# Altium footprint library MOTHERBOARD.PcbLib: 63 footprints (part 2 of 4)
Each footprint in its own frame and in the unit in brackets; x right, y up, seen from the top. Pads: shape width x height; smd on the part's side, far side on the other; paste and mask are expansions set on the pad; w line width, h text height; cw(c..) or ccw(c..) is an arc to the next point about the centre after c.
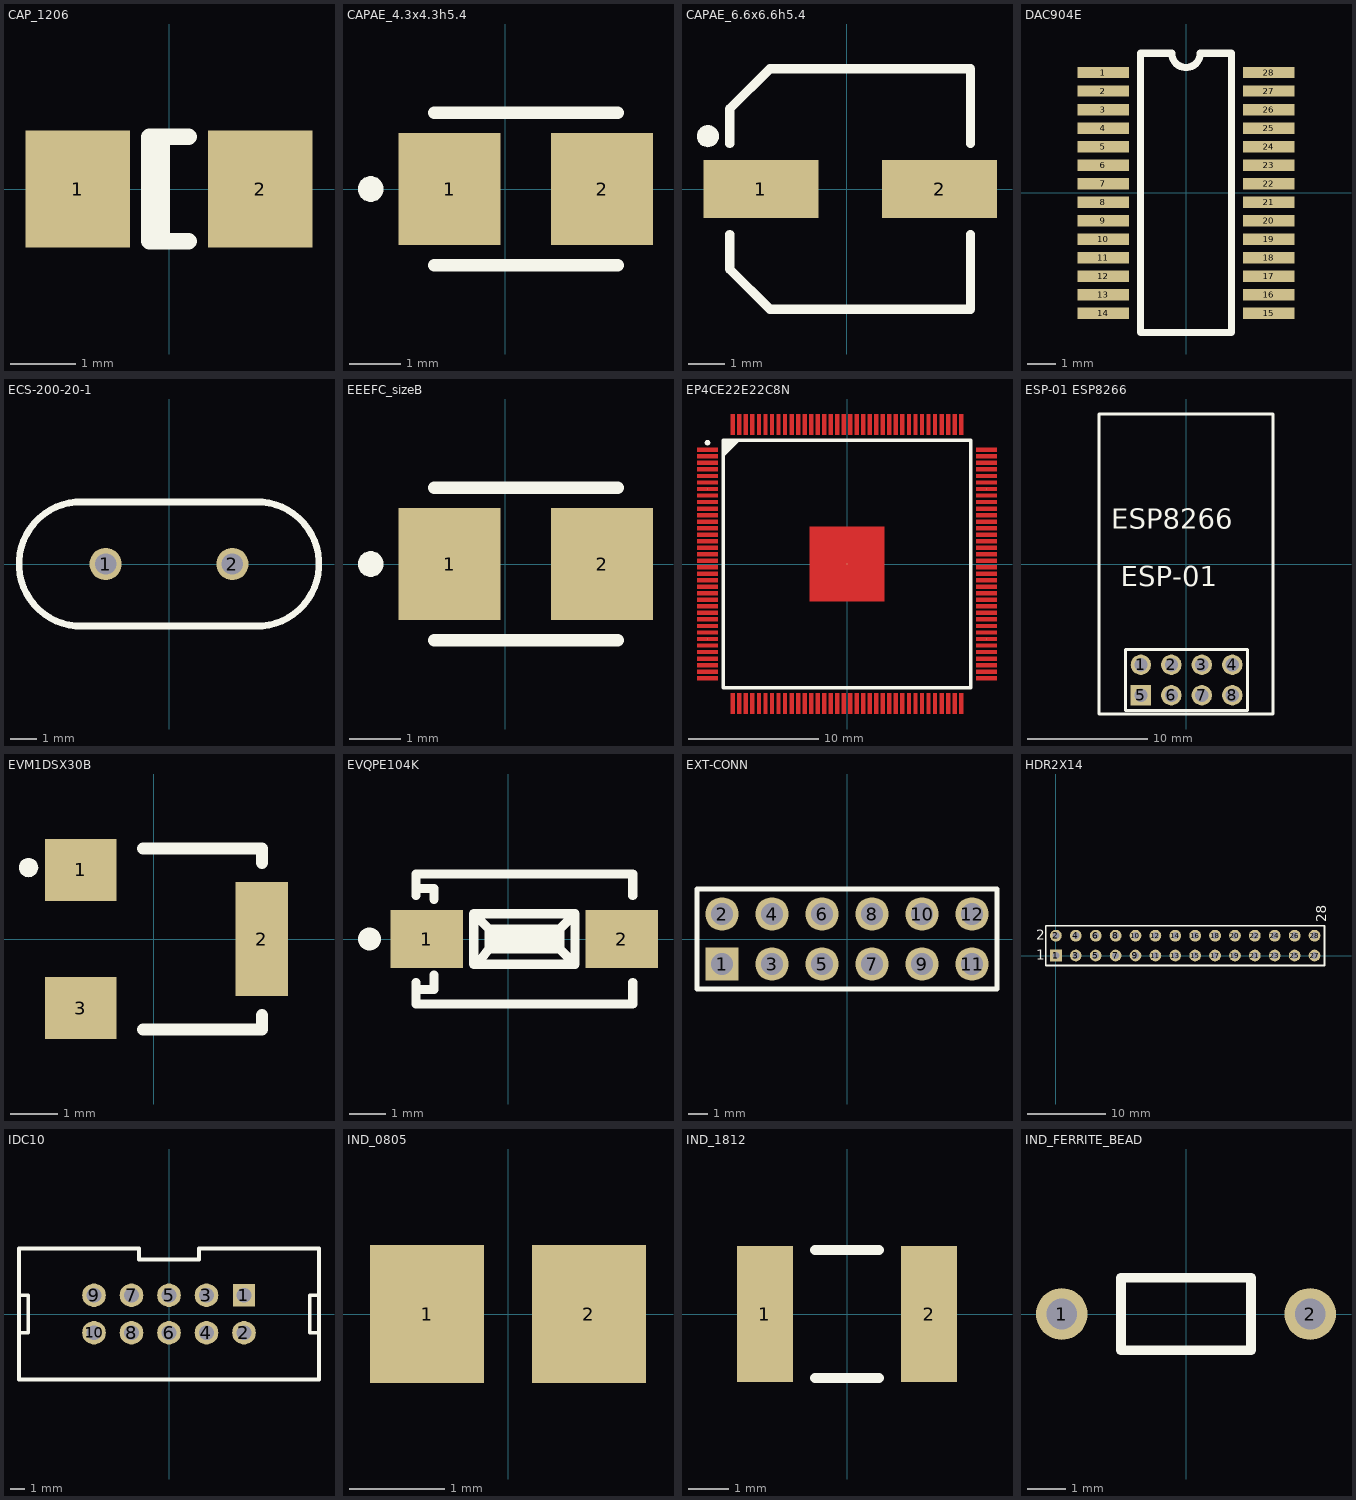
[diagram p1: the footprints below, top view; thin cyan lines are the x and y axes]

## CAP_1206 [mm]
pads (2):
  rect 1.6x1.8 smd: 1(-1.4,0) 2(1.4,0)
Top Overlay:
  lines w0.254: -0.11,-0.799 -0.11,0.799 ; 0.299,-0.799 -0.299,-0.799 -0.299,0.799 0.299,0.799

## CAPAE_4.3x4.3h5.4 [mm]
pads (2):
  rect 2x2.2 smd: 1(-1.1,0) 2(1.9,0)
Top Overlay:
  region: -2.4,0 -2.404,0.043 -2.415,0.085 -2.434,0.125 -2.458,0.161 -2.489,0.191 -2.525,0.216 -2.565,0.235 -2.607,0.246 -2.65,0.25 -2.693,0.246 -2.736,0.235 -2.775,0.216 -2.811,0.191 -2.842,0.161 -2.866,0.125 -2.885,0.085 -2.896,0.043 -2.9,0 -2.896,-0.043 -2.885,-0.085 -2.866,-0.125 -2.842,-0.161 -2.811,-0.191 -2.775,-0.216 -2.736,-0.235 -2.693,-0.246 -2.65,-0.25 -2.607,-0.246 -2.565,-0.235 -2.525,-0.216 -2.489,-0.191 -2.458,-0.161 -2.434,-0.125 -2.415,-0.085 -2.404,-0.043
  lines w0.254: -1.4,-1.5 2.2,-1.5 ; -1.4,1.5 2.2,1.5

## CAPAE_6.6x6.6h5.4 [mm]
pads (2):
  rect 3.15x1.6 smd: 1(-2.362,0) 2(2.538,0)
Top Overlay:
  region: -3.513,1.45 -3.518,1.502 -3.531,1.552 -3.553,1.6 -3.583,1.643 -3.62,1.679 -3.663,1.709 -3.71,1.732 -3.761,1.745 -3.813,1.75 -3.865,1.745 -3.915,1.732 -3.963,1.709 -4.005,1.679 -4.042,1.643 -4.072,1.6 -4.094,1.552 -4.108,1.502 -4.112,1.45 -4.108,1.398 -4.094,1.347 -4.072,1.3 -4.042,1.257 -4.005,1.22 -3.963,1.19 -3.915,1.168 -3.865,1.154 -3.813,1.15 -3.761,1.154 -3.71,1.168 -3.663,1.19 -3.62,1.22 -3.583,1.257 -3.553,1.3 -3.531,1.347 -3.518,1.398
  lines w0.254: -3.212,-1.25 -3.212,-2.2 -2.112,-3.3 3.387,-3.3 3.388,-1.25 ; -3.212,1.25 -3.212,2.2 -2.112,3.3 3.387,3.3 3.388,1.25

## DAC904E [mm]
pads (28):
  rect 1.8x0.4 smd: 1(-2.9,4.225) 2(-2.9,3.575) 3(-2.9,2.925) 4(-2.9,2.275) 5(-2.9,1.625) 6(-2.9,0.975) 7(-2.9,0.325) 8(-2.9,-0.325) 9(-2.9,-0.975) 10(-2.9,-1.625) 11(-2.9,-2.275) 12(-2.9,-2.925) 13(-2.9,-3.575) 14(-2.9,-4.225) 15(2.9,-4.225) 16(2.9,-3.575) 17(2.9,-2.925) 18(2.9,-2.275) 19(2.9,-1.625) 20(2.9,-0.975) 21(2.9,-0.325) 22(2.9,0.325) 23(2.9,0.975) 24(2.9,1.625) 25(2.9,2.275) 26(2.9,2.925) 27(2.9,3.575) 28(2.9,4.225)
Top Overlay:
  lines w0.254: -0.5,4.899 -1.6,4.899 -1.6,-4.899 1.6,-4.899 1.6,4.899 0.5,4.899 ; -0.5,4.901 ccw(c0,4.901) 0.5,4.901

## ECS-200-20-1 [mil]
pads (2):
  round 48 hole 32: 1(-95,0) 2(95,0)
Top Overlay:
  lines w10: -139.67,-92.87 139.67,-92.87 ; -139.67,92.87 139.67,92.87 ; -139.57,-92.88 cw(c-131.45,0) -139.57,92.88 ; 139.57,-92.88 ccw(c131.45,0) 139.57,92.88

## EEEFC_sizeB [mm]
pads (2):
  rect 2x2.2 smd: 1(-1.1,0) 2(1.9,0)
Top Overlay:
  region: -2.4,0 -2.404,0.043 -2.415,0.085 -2.434,0.125 -2.458,0.161 -2.489,0.191 -2.525,0.216 -2.565,0.235 -2.607,0.246 -2.65,0.25 -2.693,0.246 -2.736,0.235 -2.775,0.216 -2.811,0.191 -2.842,0.161 -2.866,0.125 -2.885,0.085 -2.896,0.043 -2.9,0 -2.896,-0.043 -2.885,-0.085 -2.866,-0.125 -2.842,-0.161 -2.811,-0.191 -2.775,-0.216 -2.736,-0.235 -2.693,-0.246 -2.65,-0.25 -2.607,-0.246 -2.565,-0.235 -2.525,-0.216 -2.489,-0.191 -2.458,-0.161 -2.434,-0.125 -2.415,-0.085 -2.404,-0.043
  lines w0.254: -1.4,-1.5 2.2,-1.5 ; -1.4,1.5 2.2,1.5

## EP4CE22E22C8N [mm]
pads (145):
  round 0 smd paste-25.4 mask-25.4: 1(-10.7,8.75) 2(-10.7,8.25) 3(-10.7,7.75) 4(-10.7,7.25) 5(-10.7,6.75) 6(-10.7,6.25) 7(-10.7,5.75) 8(-10.7,5.25) 9(-10.7,4.75) 10(-10.7,4.25) 11(-10.7,3.75) 12(-10.7,3.25) 13(-10.7,2.75) 14(-10.7,2.25) 15(-10.7,1.75) 16(-10.7,1.25) 17(-10.7,0.75) 18(-10.7,0.25) 19(-10.7,-0.25) 20(-10.7,-0.75) 21(-10.7,-1.25) 22(-10.7,-1.75) 23(-10.7,-2.25) 24(-10.7,-2.75) 25(-10.7,-3.25) 26(-10.7,-3.75) 27(-10.7,-4.25) 28(-10.7,-4.75) 29(-10.7,-5.25) 30(-10.7,-5.75) 31(-10.7,-6.25) 32(-10.7,-6.75) 33(-10.7,-7.25) 34(-10.7,-7.75) 35(-10.7,-8.25) 36(-10.7,-8.75) 37(-8.75,-10.7) 38(-8.25,-10.7) 39(-7.75,-10.7) 40(-7.25,-10.7) 41(-6.75,-10.7) 42(-6.25,-10.7) 43(-5.75,-10.7) 44(-5.25,-10.7) 45(-4.75,-10.7) 46(-4.25,-10.7) 47(-3.75,-10.7) 48(-3.25,-10.7) 49(-2.75,-10.7) 50(-2.25,-10.7) 51(-1.75,-10.7) 52(-1.25,-10.7) 53(-0.75,-10.7) 54(-0.25,-10.7) 55(0.25,-10.7) 56(0.75,-10.7) 57(1.25,-10.7) 58(1.75,-10.7) 59(2.25,-10.7) 60(2.75,-10.7) 61(3.25,-10.7) 62(3.75,-10.7) 63(4.25,-10.7) 64(4.75,-10.7) 65(5.25,-10.7) 66(5.75,-10.7) 67(6.25,-10.7) 68(6.75,-10.7) 69(7.25,-10.7) 70(7.75,-10.7) 71(8.25,-10.7) 72(8.75,-10.7) 73(10.7,-8.75) 74(10.7,-8.25) 75(10.7,-7.75) 76(10.7,-7.25) 77(10.7,-6.75) 78(10.7,-6.25) 79(10.7,-5.75) 80(10.7,-5.25) 81(10.7,-4.75) 82(10.7,-4.25) 83(10.7,-3.75) 84(10.7,-3.25) 85(10.7,-2.75) 86(10.7,-2.25) 87(10.7,-1.75) 88(10.7,-1.25) 89(10.7,-0.75) 90(10.7,-0.25) 91(10.7,0.25) 92(10.7,0.75) 93(10.7,1.25) 94(10.7,1.75) 95(10.7,2.25) 96(10.7,2.75) 97(10.7,3.25) 98(10.7,3.75) 99(10.7,4.25) 100(10.7,4.75) 101(10.7,5.25) 102(10.7,5.75) 103(10.7,6.25) 104(10.7,6.75) 105(10.7,7.25) 106(10.7,7.75) 107(10.7,8.25) 108(10.7,8.75) 109(8.75,10.7) 110(8.25,10.7) 111(7.75,10.7) 112(7.25,10.7) 113(6.75,10.7) 114(6.25,10.7) 115(5.75,10.7) 116(5.25,10.7) 117(4.75,10.7) 118(4.25,10.7) 119(3.75,10.7) 120(3.25,10.7) 121(2.75,10.7) 122(2.25,10.7) 123(1.75,10.7) 124(1.25,10.7) 125(0.75,10.7) 126(0.25,10.7) 127(-0.25,10.7) 128(-0.75,10.7) 129(-1.25,10.7) 130(-1.75,10.7) 131(-2.25,10.7) 132(-2.75,10.7) 133(-3.25,10.7) 134(-3.75,10.7) 135(-4.25,10.7) 136(-4.75,10.7) 137(-5.25,10.7) 138(-5.75,10.7) 139(-6.25,10.7) 140(-6.75,10.7) 141(-7.25,10.7) 142(-7.75,10.7) 143(-8.25,10.7) 144(-8.75,10.7) 145(0,0)
Top Layer:
  region: 8.1,11.5 8.4,11.5 8.4,9.9 8.1,9.9
  region: -8.4,11.5 -8.1,11.5 -8.1,9.9 -8.4,9.9
  region: 8.6,11.5 8.9,11.5 8.9,9.9 8.6,9.9
  region: 6.1,11.5 6.4,11.5 6.4,9.9 6.1,9.9
  region: 6.6,11.5 6.9,11.5 6.9,9.9 6.6,9.9
  region: 7.1,11.5 7.4,11.5 7.4,9.9 7.1,9.9
  region: 7.6,11.5 7.9,11.5 7.9,9.9 7.6,9.9
  region: 4.1,11.5 4.4,11.5 4.4,9.9 4.1,9.9
  region: 4.6,11.5 4.9,11.5 4.9,9.9 4.6,9.9
  region: 5.1,11.5 5.4,11.5 5.4,9.9 5.1,9.9
  region: 5.6,11.5 5.9,11.5 5.9,9.9 5.6,9.9
  region: 2.1,11.5 2.4,11.5 2.4,9.9 2.1,9.9
  region: 2.6,11.5 2.9,11.5 2.9,9.9 2.6,9.9
  region: 3.1,11.5 3.4,11.5 3.4,9.9 3.1,9.9
  region: 3.6,11.5 3.9,11.5 3.9,9.9 3.6,9.9
  region: 0.1,11.5 0.4,11.5 0.4,9.9 0.1,9.9
  region: 0.6,11.5 0.9,11.5 0.9,9.9 0.6,9.9
  region: 1.1,11.5 1.4,11.5 1.4,9.9 1.1,9.9
  region: 1.6,11.5 1.9,11.5 1.9,9.9 1.6,9.9
  region: -1.9,11.5 -1.6,11.5 -1.6,9.9 -1.9,9.9
  region: -1.4,11.5 -1.1,11.5 -1.1,9.9 -1.4,9.9
  region: -0.9,11.5 -0.6,11.5 -0.6,9.9 -0.9,9.9
  region: -0.4,11.5 -0.1,11.5 -0.1,9.9 -0.4,9.9
  region: -3.9,11.5 -3.6,11.5 -3.6,9.9 -3.9,9.9
  region: -3.4,11.5 -3.1,11.5 -3.1,9.9 -3.4,9.9
  region: -2.9,11.5 -2.6,11.5 -2.6,9.9 -2.9,9.9
  region: -2.4,11.5 -2.1,11.5 -2.1,9.9 -2.4,9.9
  region: -5.9,11.5 -5.6,11.5 -5.6,9.9 -5.9,9.9
  region: -5.4,11.5 -5.1,11.5 -5.1,9.9 -5.4,9.9
  region: -4.9,11.5 -4.6,11.5 -4.6,9.9 -4.9,9.9
  region: -4.4,11.5 -4.1,11.5 -4.1,9.9 -4.4,9.9
  region: -7.9,11.5 -7.6,11.5 -7.6,9.9 -7.9,9.9
  region: -7.4,11.5 -7.1,11.5 -7.1,9.9 -7.4,9.9
  region: -6.9,11.5 -6.6,11.5 -6.6,9.9 -6.9,9.9
  region: -6.4,11.5 -6.1,11.5 -6.1,9.9 -6.4,9.9
  region: -8.9,11.5 -8.6,11.5 -8.6,9.9 -8.9,9.9
  region: -2.85,2.85 2.85,2.85 2.85,-2.85 -2.85,-2.85
  region: 9.9,8.1 9.9,8.4 11.5,8.4 11.5,8.1
  region: 9.9,-8.4 9.9,-8.1 11.5,-8.1 11.5,-8.4
  region: 9.9,8.6 9.9,8.9 11.5,8.9 11.5,8.6
  region: 9.9,7.6 9.9,7.9 11.5,7.9 11.5,7.6
  region: 9.9,7.1 9.9,7.4 11.5,7.4 11.5,7.1
  region: 9.9,6.6 9.9,6.9 11.5,6.9 11.5,6.6
  region: 9.9,6.1 9.9,6.4 11.5,6.4 11.5,6.1
  region: 9.9,5.6 9.9,5.9 11.5,5.9 11.5,5.6
  region: 9.9,5.1 9.9,5.4 11.5,5.4 11.5,5.1
  region: 9.9,4.6 9.9,4.9 11.5,4.9 11.5,4.6
  region: 9.9,4.1 9.9,4.4 11.5,4.4 11.5,4.1
  region: 9.9,3.6 9.9,3.9 11.5,3.9 11.5,3.6
  region: 9.9,3.1 9.9,3.4 11.5,3.4 11.5,3.1
  region: 9.9,2.6 9.9,2.9 11.5,2.9 11.5,2.6
  region: 9.9,2.1 9.9,2.4 11.5,2.4 11.5,2.1
  region: 9.9,1.6 9.9,1.9 11.5,1.9 11.5,1.6
  region: 9.9,1.1 9.9,1.4 11.5,1.4 11.5,1.1
  region: 9.9,0.6 9.9,0.9 11.5,0.9 11.5,0.6
  region: 9.9,0.1 9.9,0.4 11.5,0.4 11.5,0.1
  region: 9.9,-0.4 9.9,-0.1 11.5,-0.1 11.5,-0.4
  region: 9.9,-0.9 9.9,-0.6 11.5,-0.6 11.5,-0.9
  region: 9.9,-1.4 9.9,-1.1 11.5,-1.1 11.5,-1.4
  region: 9.9,-1.9 9.9,-1.6 11.5,-1.6 11.5,-1.9
  region: 9.9,-2.4 9.9,-2.1 11.5,-2.1 11.5,-2.4
  region: 9.9,-2.9 9.9,-2.6 11.5,-2.6 11.5,-2.9
  region: 9.9,-3.4 9.9,-3.1 11.5,-3.1 11.5,-3.4
  region: 9.9,-3.9 9.9,-3.6 11.5,-3.6 11.5,-3.9
  region: 9.9,-4.4 9.9,-4.1 11.5,-4.1 11.5,-4.4
  region: 9.9,-4.9 9.9,-4.6 11.5,-4.6 11.5,-4.9
  region: 9.9,-5.4 9.9,-5.1 11.5,-5.1 11.5,-5.4
  region: 9.9,-5.9 9.9,-5.6 11.5,-5.6 11.5,-5.9
  region: 9.9,-6.4 9.9,-6.1 11.5,-6.1 11.5,-6.4
  region: 9.9,-6.9 9.9,-6.6 11.5,-6.6 11.5,-6.9
  region: 9.9,-7.4 9.9,-7.1 11.5,-7.1 11.5,-7.4
  region: 9.9,-7.9 9.9,-7.6 11.5,-7.6 11.5,-7.9
  region: 9.9,-8.9 9.9,-8.6 11.5,-8.6 11.5,-8.9
  region: 8.1,-9.9 8.4,-9.9 8.4,-11.5 8.1,-11.5
  region: -8.4,-9.9 -8.1,-9.9 -8.1,-11.5 -8.4,-11.5
  region: 8.6,-9.9 8.9,-9.9 8.9,-11.5 8.6,-11.5
  region: 7.6,-9.9 7.9,-9.9 7.9,-11.5 7.6,-11.5
  region: 7.1,-9.9 7.4,-9.9 7.4,-11.5 7.1,-11.5
  region: 6.6,-9.9 6.9,-9.9 6.9,-11.5 6.6,-11.5
  region: 6.1,-9.9 6.4,-9.9 6.4,-11.5 6.1,-11.5
  region: 5.6,-9.9 5.9,-9.9 5.9,-11.5 5.6,-11.5
  region: 5.1,-9.9 5.4,-9.9 5.4,-11.5 5.1,-11.5
  region: 4.6,-9.9 4.9,-9.9 4.9,-11.5 4.6,-11.5
  region: 4.1,-9.9 4.4,-9.9 4.4,-11.5 4.1,-11.5
  region: 3.6,-9.9 3.9,-9.9 3.9,-11.5 3.6,-11.5
  region: 3.1,-9.9 3.4,-9.9 3.4,-11.5 3.1,-11.5
  region: 2.6,-9.9 2.9,-9.9 2.9,-11.5 2.6,-11.5
  region: 2.1,-9.9 2.4,-9.9 2.4,-11.5 2.1,-11.5
  region: 1.6,-9.9 1.9,-9.9 1.9,-11.5 1.6,-11.5
  region: 1.1,-9.9 1.4,-9.9 1.4,-11.5 1.1,-11.5
  region: 0.6,-9.9 0.9,-9.9 0.9,-11.5 0.6,-11.5
  region: 0.1,-9.9 0.4,-9.9 0.4,-11.5 0.1,-11.5
  region: -0.4,-9.9 -0.1,-9.9 -0.1,-11.5 -0.4,-11.5
  region: -0.9,-9.9 -0.6,-9.9 -0.6,-11.5 -0.9,-11.5
  region: -1.4,-9.9 -1.1,-9.9 -1.1,-11.5 -1.4,-11.5
  region: -1.9,-9.9 -1.6,-9.9 -1.6,-11.5 -1.9,-11.5
  region: -2.4,-9.9 -2.1,-9.9 -2.1,-11.5 -2.4,-11.5
  region: -2.9,-9.9 -2.6,-9.9 -2.6,-11.5 -2.9,-11.5
  region: -3.4,-9.9 -3.1,-9.9 -3.1,-11.5 -3.4,-11.5
  region: -3.9,-9.9 -3.6,-9.9 -3.6,-11.5 -3.9,-11.5
  region: -4.4,-9.9 -4.1,-9.9 -4.1,-11.5 -4.4,-11.5
  region: -4.9,-9.9 -4.6,-9.9 -4.6,-11.5 -4.9,-11.5
  region: -5.4,-9.9 -5.1,-9.9 -5.1,-11.5 -5.4,-11.5
  region: -5.9,-9.9 -5.6,-9.9 -5.6,-11.5 -5.9,-11.5
  region: -6.4,-9.9 -6.1,-9.9 -6.1,-11.5 -6.4,-11.5
  region: -6.9,-9.9 -6.6,-9.9 -6.6,-11.5 -6.9,-11.5
  region: -7.4,-9.9 -7.1,-9.9 -7.1,-11.5 -7.4,-11.5
  region: -7.9,-9.9 -7.6,-9.9 -7.6,-11.5 -7.9,-11.5
  region: -8.9,-9.9 -8.6,-9.9 -8.6,-11.5 -8.9,-11.5
  region: -11.5,8.1 -11.5,8.4 -9.9,8.4 -9.9,8.1
  region: -11.5,-8.4 -11.5,-8.1 -9.9,-8.1 -9.9,-8.4
  region: -11.5,8.6 -11.5,8.9 -9.9,8.9 -9.9,8.6
  region: -11.5,6.1 -11.5,6.4 -9.9,6.4 -9.9,6.1
  region: -11.5,6.6 -11.5,6.9 -9.9,6.9 -9.9,6.6
  region: -11.5,7.1 -11.5,7.4 -9.9,7.4 -9.9,7.1
  region: -11.5,7.6 -11.5,7.9 -9.9,7.9 -9.9,7.6
  region: -11.5,4.1 -11.5,4.4 -9.9,4.4 -9.9,4.1
  region: -11.5,4.6 -11.5,4.9 -9.9,4.9 -9.9,4.6
  region: -11.5,5.1 -11.5,5.4 -9.9,5.4 -9.9,5.1
  region: -11.5,5.6 -11.5,5.9 -9.9,5.9 -9.9,5.6
  region: -11.5,2.1 -11.5,2.4 -9.9,2.4 -9.9,2.1
  region: -11.5,2.6 -11.5,2.9 -9.9,2.9 -9.9,2.6
  region: -11.5,3.1 -11.5,3.4 -9.9,3.4 -9.9,3.1
  region: -11.5,3.6 -11.5,3.9 -9.9,3.9 -9.9,3.6
  region: -11.5,0.1 -11.5,0.4 -9.9,0.4 -9.9,0.1
  region: -11.5,0.6 -11.5,0.9 -9.9,0.9 -9.9,0.6
  region: -11.5,1.1 -11.5,1.4 -9.9,1.4 -9.9,1.1
  region: -11.5,1.6 -11.5,1.9 -9.9,1.9 -9.9,1.6
  region: -11.5,-1.9 -11.5,-1.6 -9.9,-1.6 -9.9,-1.9
  region: -11.5,-1.4 -11.5,-1.1 -9.9,-1.1 -9.9,-1.4
  region: -11.5,-0.9 -11.5,-0.6 -9.9,-0.6 -9.9,-0.9
  region: -11.5,-0.4 -11.5,-0.1 -9.9,-0.1 -9.9,-0.4
  region: -11.5,-3.9 -11.5,-3.6 -9.9,-3.6 -9.9,-3.9
  region: -11.5,-3.4 -11.5,-3.1 -9.9,-3.1 -9.9,-3.4
  region: -11.5,-2.9 -11.5,-2.6 -9.9,-2.6 -9.9,-2.9
  region: -11.5,-2.4 -11.5,-2.1 -9.9,-2.1 -9.9,-2.4
  region: -11.5,-5.9 -11.5,-5.6 -9.9,-5.6 -9.9,-5.9
  region: -11.5,-5.4 -11.5,-5.1 -9.9,-5.1 -9.9,-5.4
  region: -11.5,-4.9 -11.5,-4.6 -9.9,-4.6 -9.9,-4.9
  region: -11.5,-4.4 -11.5,-4.1 -9.9,-4.1 -9.9,-4.4
  region: -11.5,-7.9 -11.5,-7.6 -9.9,-7.6 -9.9,-7.9
  region: -11.5,-7.4 -11.5,-7.1 -9.9,-7.1 -9.9,-7.4
  region: -11.5,-6.9 -11.5,-6.6 -9.9,-6.6 -9.9,-6.9
  region: -11.5,-6.4 -11.5,-6.1 -9.9,-6.1 -9.9,-6.4
  region: -11.5,-8.9 -11.5,-8.6 -9.9,-8.6 -9.9,-8.9
  region: -2.85,2.85 2.85,2.85 2.85,-2.85 -2.85,-2.85
  region: -8.9,11.5 -8.6,11.5 -8.6,9.9 -8.9,9.9
  region: -8.4,11.5 -8.1,11.5 -8.1,9.9 -8.4,9.9
  region: -7.9,11.5 -7.6,11.5 -7.6,9.9 -7.9,9.9
  region: -7.4,11.5 -7.1,11.5 -7.1,9.9 -7.4,9.9
  region: -6.9,11.5 -6.6,11.5 -6.6,9.9 -6.9,9.9
  region: -6.4,11.5 -6.1,11.5 -6.1,9.9 -6.4,9.9
  region: -5.9,11.5 -5.6,11.5 -5.6,9.9 -5.9,9.9
  region: -5.4,11.5 -5.1,11.5 -5.1,9.9 -5.4,9.9
  region: -4.9,11.5 -4.6,11.5 -4.6,9.9 -4.9,9.9
  region: -4.4,11.5 -4.1,11.5 -4.1,9.9 -4.4,9.9
  region: -3.9,11.5 -3.6,11.5 -3.6,9.9 -3.9,9.9
  region: -3.4,11.5 -3.1,11.5 -3.1,9.9 -3.4,9.9
  region: -2.9,11.5 -2.6,11.5 -2.6,9.9 -2.9,9.9
  region: -2.4,11.5 -2.1,11.5 -2.1,9.9 -2.4,9.9
  region: -1.9,11.5 -1.6,11.5 -1.6,9.9 -1.9,9.9
  region: -1.4,11.5 -1.1,11.5 -1.1,9.9 -1.4,9.9
  region: -0.9,11.5 -0.6,11.5 -0.6,9.9 -0.9,9.9
  region: -0.4,11.5 -0.1,11.5 -0.1,9.9 -0.4,9.9
  region: 0.1,11.5 0.4,11.5 0.4,9.9 0.1,9.9
  region: 0.6,11.5 0.9,11.5 0.9,9.9 0.6,9.9
  region: 1.1,11.5 1.4,11.5 1.4,9.9 1.1,9.9
  region: 1.6,11.5 1.9,11.5 1.9,9.9 1.6,9.9
  region: 2.1,11.5 2.4,11.5 2.4,9.9 2.1,9.9
  region: 2.6,11.5 2.9,11.5 2.9,9.9 2.6,9.9
  region: 3.1,11.5 3.4,11.5 3.4,9.9 3.1,9.9
  region: 3.6,11.5 3.9,11.5 3.9,9.9 3.6,9.9
  region: 4.1,11.5 4.4,11.5 4.4,9.9 4.1,9.9
  region: 4.6,11.5 4.9,11.5 4.9,9.9 4.6,9.9
  region: 5.1,11.5 5.4,11.5 5.4,9.9 5.1,9.9
  region: 5.6,11.5 5.9,11.5 5.9,9.9 5.6,9.9
  region: 6.1,11.5 6.4,11.5 6.4,9.9 6.1,9.9
  region: 6.6,11.5 6.9,11.5 6.9,9.9 6.6,9.9
  region: 7.1,11.5 7.4,11.5 7.4,9.9 7.1,9.9
  region: 7.6,11.5 7.9,11.5 7.9,9.9 7.6,9.9
  region: 8.1,11.5 8.4,11.5 8.4,9.9 8.1,9.9
  region: 8.6,11.5 8.9,11.5 8.9,9.9 8.6,9.9
  region: 9.9,8.6 9.9,8.9 11.5,8.9 11.5,8.6
  region: 9.9,8.1 9.9,8.4 11.5,8.4 11.5,8.1
  region: 9.9,7.6 9.9,7.9 11.5,7.9 11.5,7.6
  region: 9.9,7.1 9.9,7.4 11.5,7.4 11.5,7.1
  region: 9.9,6.6 9.9,6.9 11.5,6.9 11.5,6.6
  region: 9.9,6.1 9.9,6.4 11.5,6.4 11.5,6.1
  region: 9.9,5.6 9.9,5.9 11.5,5.9 11.5,5.6
  region: 9.9,5.1 9.9,5.4 11.5,5.4 11.5,5.1
  region: 9.9,4.6 9.9,4.9 11.5,4.9 11.5,4.6
  region: 9.9,4.1 9.9,4.4 11.5,4.4 11.5,4.1
  region: 9.9,3.6 9.9,3.9 11.5,3.9 11.5,3.6
  region: 9.9,3.1 9.9,3.4 11.5,3.4 11.5,3.1
  region: 9.9,2.6 9.9,2.9 11.5,2.9 11.5,2.6
  region: 9.9,2.1 9.9,2.4 11.5,2.4 11.5,2.1
  region: 9.9,1.6 9.9,1.9 11.5,1.9 11.5,1.6
  region: 9.9,1.1 9.9,1.4 11.5,1.4 11.5,1.1
  region: 9.9,0.6 9.9,0.9 11.5,0.9 11.5,0.6
  region: 9.9,0.1 9.9,0.4 11.5,0.4 11.5,0.1
  region: 9.9,-0.4 9.9,-0.1 11.5,-0.1 11.5,-0.4
  region: 9.9,-0.9 9.9,-0.6 11.5,-0.6 11.5,-0.9
  region: 9.9,-1.4 9.9,-1.1 11.5,-1.1 11.5,-1.4
  region: 9.9,-1.9 9.9,-1.6 11.5,-1.6 11.5,-1.9
  region: 9.9,-2.4 9.9,-2.1 11.5,-2.1 11.5,-2.4
  region: 9.9,-2.9 9.9,-2.6 11.5,-2.6 11.5,-2.9
  region: 9.9,-3.4 9.9,-3.1 11.5,-3.1 11.5,-3.4
  region: 9.9,-3.9 9.9,-3.6 11.5,-3.6 11.5,-3.9
  region: 9.9,-4.4 9.9,-4.1 11.5,-4.1 11.5,-4.4
  region: 9.9,-4.9 9.9,-4.6 11.5,-4.6 11.5,-4.9
  region: 9.9,-5.4 9.9,-5.1 11.5,-5.1 11.5,-5.4
  region: 9.9,-5.9 9.9,-5.6 11.5,-5.6 11.5,-5.9
  region: 9.9,-6.4 9.9,-6.1 11.5,-6.1 11.5,-6.4
  region: 9.9,-6.9 9.9,-6.6 11.5,-6.6 11.5,-6.9
  region: 9.9,-7.4 9.9,-7.1 11.5,-7.1 11.5,-7.4
  region: 9.9,-7.9 9.9,-7.6 11.5,-7.6 11.5,-7.9
  region: 9.9,-8.4 9.9,-8.1 11.5,-8.1 11.5,-8.4
  region: 9.9,-8.9 9.9,-8.6 11.5,-8.6 11.5,-8.9
  region: 8.6,-9.9 8.9,-9.9 8.9,-11.5 8.6,-11.5
  region: 8.1,-9.9 8.4,-9.9 8.4,-11.5 8.1,-11.5
  region: 7.6,-9.9 7.9,-9.9 7.9,-11.5 7.6,-11.5
  region: 7.1,-9.9 7.4,-9.9 7.4,-11.5 7.1,-11.5
  region: 6.6,-9.9 6.9,-9.9 6.9,-11.5 6.6,-11.5
  region: 6.1,-9.9 6.4,-9.9 6.4,-11.5 6.1,-11.5
  region: 5.6,-9.9 5.9,-9.9 5.9,-11.5 5.6,-11.5
  region: 5.1,-9.9 5.4,-9.9 5.4,-11.5 5.1,-11.5
  region: 4.6,-9.9 4.9,-9.9 4.9,-11.5 4.6,-11.5
  region: 4.1,-9.9 4.4,-9.9 4.4,-11.5 4.1,-11.5
  region: 3.6,-9.9 3.9,-9.9 3.9,-11.5 3.6,-11.5
  region: 3.1,-9.9 3.4,-9.9 3.4,-11.5 3.1,-11.5
  region: 2.6,-9.9 2.9,-9.9 2.9,-11.5 2.6,-11.5
  region: 2.1,-9.9 2.4,-9.9 2.4,-11.5 2.1,-11.5
  region: 1.6,-9.9 1.9,-9.9 1.9,-11.5 1.6,-11.5
  region: 1.1,-9.9 1.4,-9.9 1.4,-11.5 1.1,-11.5
  region: 0.6,-9.9 0.9,-9.9 0.9,-11.5 0.6,-11.5
  region: 0.1,-9.9 0.4,-9.9 0.4,-11.5 0.1,-11.5
  region: -0.4,-9.9 -0.1,-9.9 -0.1,-11.5 -0.4,-11.5
  region: -0.9,-9.9 -0.6,-9.9 -0.6,-11.5 -0.9,-11.5
  region: -1.4,-9.9 -1.1,-9.9 -1.1,-11.5 -1.4,-11.5
  region: -1.9,-9.9 -1.6,-9.9 -1.6,-11.5 -1.9,-11.5
  region: -2.4,-9.9 -2.1,-9.9 -2.1,-11.5 -2.4,-11.5
  region: -2.9,-9.9 -2.6,-9.9 -2.6,-11.5 -2.9,-11.5
  region: -3.4,-9.9 -3.1,-9.9 -3.1,-11.5 -3.4,-11.5
  region: -3.9,-9.9 -3.6,-9.9 -3.6,-11.5 -3.9,-11.5
  region: -4.4,-9.9 -4.1,-9.9 -4.1,-11.5 -4.4,-11.5
  region: -4.9,-9.9 -4.6,-9.9 -4.6,-11.5 -4.9,-11.5
  region: -5.4,-9.9 -5.1,-9.9 -5.1,-11.5 -5.4,-11.5
  region: -5.9,-9.9 -5.6,-9.9 -5.6,-11.5 -5.9,-11.5
  region: -6.4,-9.9 -6.1,-9.9 -6.1,-11.5 -6.4,-11.5
  region: -6.9,-9.9 -6.6,-9.9 -6.6,-11.5 -6.9,-11.5
  region: -7.4,-9.9 -7.1,-9.9 -7.1,-11.5 -7.4,-11.5
  region: -7.9,-9.9 -7.6,-9.9 -7.6,-11.5 -7.9,-11.5
  region: -8.4,-9.9 -8.1,-9.9 -8.1,-11.5 -8.4,-11.5
  region: -8.9,-9.9 -8.6,-9.9 -8.6,-11.5 -8.9,-11.5
  region: -11.5,-8.9 -11.5,-8.6 -9.9,-8.6 -9.9,-8.9
  region: -11.5,-8.4 -11.5,-8.1 -9.9,-8.1 -9.9,-8.4
  region: -11.5,-7.9 -11.5,-7.6 -9.9,-7.6 -9.9,-7.9
  region: -11.5,-7.4 -11.5,-7.1 -9.9,-7.1 -9.9,-7.4
  region: -11.5,-6.9 -11.5,-6.6 -9.9,-6.6 -9.9,-6.9
  region: -11.5,-6.4 -11.5,-6.1 -9.9,-6.1 -9.9,-6.4
  region: -11.5,-5.9 -11.5,-5.6 -9.9,-5.6 -9.9,-5.9
  region: -11.5,-5.4 -11.5,-5.1 -9.9,-5.1 -9.9,-5.4
  region: -11.5,-4.9 -11.5,-4.6 -9.9,-4.6 -9.9,-4.9
  region: -11.5,-4.4 -11.5,-4.1 -9.9,-4.1 -9.9,-4.4
  region: -11.5,-3.9 -11.5,-3.6 -9.9,-3.6 -9.9,-3.9
  region: -11.5,-3.4 -11.5,-3.1 -9.9,-3.1 -9.9,-3.4
  region: -11.5,-2.9 -11.5,-2.6 -9.9,-2.6 -9.9,-2.9
  region: -11.5,-2.4 -11.5,-2.1 -9.9,-2.1 -9.9,-2.4
  region: -11.5,-1.9 -11.5,-1.6 -9.9,-1.6 -9.9,-1.9
  region: -11.5,-1.4 -11.5,-1.1 -9.9,-1.1 -9.9,-1.4
  region: -11.5,-0.9 -11.5,-0.6 -9.9,-0.6 -9.9,-0.9
  region: -11.5,-0.4 -11.5,-0.1 -9.9,-0.1 -9.9,-0.4
  region: -11.5,0.1 -11.5,0.4 -9.9,0.4 -9.9,0.1
  region: -11.5,0.6 -11.5,0.9 -9.9,0.9 -9.9,0.6
  region: -11.5,1.1 -11.5,1.4 -9.9,1.4 -9.9,1.1
  region: -11.5,1.6 -11.5,1.9 -9.9,1.9 -9.9,1.6
  region: -11.5,2.1 -11.5,2.4 -9.9,2.4 -9.9,2.1
  region: -11.5,2.6 -11.5,2.9 -9.9,2.9 -9.9,2.6
  region: -11.5,3.1 -11.5,3.4 -9.9,3.4 -9.9,3.1
  region: -11.5,3.6 -11.5,3.9 -9.9,3.9 -9.9,3.6
  region: -11.5,4.1 -11.5,4.4 -9.9,4.4 -9.9,4.1
  region: -11.5,4.6 -11.5,4.9 -9.9,4.9 -9.9,4.6
  region: -11.5,5.1 -11.5,5.4 -9.9,5.4 -9.9,5.1
  region: -11.5,5.6 -11.5,5.9 -9.9,5.9 -9.9,5.6
  region: -11.5,6.1 -11.5,6.4 -9.9,6.4 -9.9,6.1
  region: -11.5,6.6 -11.5,6.9 -9.9,6.9 -9.9,6.6
  region: -11.5,7.1 -11.5,7.4 -9.9,7.4 -9.9,7.1
  region: -11.5,7.6 -11.5,7.9 -9.9,7.9 -9.9,7.6
  region: -11.5,8.1 -11.5,8.4 -9.9,8.4 -9.9,8.1
  region: -11.5,8.6 -11.5,8.9 -9.9,8.9 -9.9,8.6
Top Overlay:
  region: -9.497,9.499 -9.497,8.2 -8.2,9.499
  region: -10.496,9.3 -10.499,9.335 -10.508,9.369 -10.523,9.4 -10.543,9.429 -10.568,9.453 -10.597,9.473 -10.629,9.488 -10.662,9.497 -10.697,9.5 -10.732,9.497 -10.766,9.488 -10.798,9.473 -10.827,9.453 -10.851,9.429 -10.872,9.4 -10.886,9.369 -10.896,9.335 -10.899,9.3 -10.896,9.265 -10.886,9.232 -10.872,9.2 -10.851,9.171 -10.827,9.147 -10.798,9.127 -10.766,9.112 -10.732,9.103 -10.697,9.1 -10.662,9.103 -10.629,9.112 -10.597,9.127 -10.568,9.147 -10.543,9.171 -10.523,9.2 -10.508,9.232 -10.499,9.265
  lines w0.254: -9.497,-9.499 -9.497,9.499 9.497,9.499 9.497,-9.499 -9.497,-9.499

## ESP-01 ESP8266 [mm]
pads (8):
  round 1.7 hole 1.1: 1(-3.76,-8.4) 2(-1.22,-8.4) 3(1.32,-8.4) 4(3.86,-8.4) 6(-1.22,-10.94) 7(1.32,-10.94) 8(3.86,-10.94)
  rect 1.7x1.7 hole 1.1: 5(-3.76,-10.94)
Top Overlay:
  lines w0.254: -7.25,-12.5 7.25,-12.5 7.25,12.5 -7.25,12.5 -7.25,-12.5 ; -5.03,-12.21 5.13,-12.21 5.13,-7.13 -5.03,-7.13 -5.03,-12.21
  text "ESP8266" at -6.213,2.926 h1.67
  text "ESP-01" at -5.441,-1.854 h1.67

## EVM1DSX30B [mm]
pads (3):
  rect 1.5x1.3 smd: 1(-1.525,1.45) 3(-1.525,-1.45)
  rect 1.1x2.4 smd: 2(2.275,0)
Top Overlay:
  region: -2.425,1.5 -2.428,1.535 -2.437,1.569 -2.452,1.6 -2.472,1.629 -2.496,1.653 -2.525,1.673 -2.556,1.688 -2.59,1.697 -2.625,1.7 -2.66,1.697 -2.693,1.688 -2.725,1.673 -2.753,1.653 -2.778,1.629 -2.798,1.6 -2.813,1.569 -2.822,1.535 -2.825,1.5 -2.822,1.465 -2.813,1.432 -2.798,1.4 -2.778,1.371 -2.753,1.347 -2.725,1.327 -2.693,1.312 -2.66,1.303 -2.625,1.3 -2.59,1.303 -2.556,1.312 -2.525,1.327 -2.496,1.347 -2.472,1.371 -2.452,1.4 -2.437,1.432 -2.428,1.465
  lines w0.254: -0.225,-1.9 2.275,-1.9 2.275,-1.6 ; -0.225,1.9 2.275,1.9 2.275,1.6

## EVQPE104K [mm]
pads (2):
  rect 2x1.6 smd: 1(-2.248,0) 2(3.152,0)
Top Overlay:
  region: -0.648,-0.4 1.551,-0.4 1.551,0.4 -0.648,0.4
  region: -3.516,0 -3.521,0.055 -3.536,0.109 -3.559,0.159 -3.591,0.204 -3.63,0.243 -3.675,0.275 -3.725,0.298 -3.779,0.313 -3.834,0.318 -3.889,0.313 -3.943,0.298 -3.993,0.275 -4.038,0.243 -4.077,0.204 -4.109,0.159 -4.132,0.109 -4.147,0.055 -4.152,0 -4.147,-0.055 -4.132,-0.109 -4.109,-0.159 -4.077,-0.204 -4.038,-0.243 -3.993,-0.275 -3.943,-0.298 -3.889,-0.313 -3.834,-0.318 -3.779,-0.313 -3.725,-0.298 -3.675,-0.275 -3.63,-0.243 -3.591,-0.204 -3.559,-0.159 -3.536,-0.109 -3.521,-0.055
  lines w0.254: -2.548,-1.4 -2.048,-1.4 -2.048,-1 ; -2.548,-1.2 -2.548,-1.8 3.452,-1.8 3.452,-1.2 ; -2.548,1.2 -2.548,1.8 3.452,1.8 3.452,1.2 ; -2.548,1.4 -2.048,1.4 -2.048,1.1 ; -0.849,-0.7 -0.548,-0.3 ; -0.548,0.3 -0.948,0.7 ; 1.451,-0.3 1.852,-0.7 ; 1.451,0.3 1.852,0.7 ; -0.948,0.7 1.852,0.7 ; -0.948,0.7 -0.948,-0.7 1.852,-0.7 ; 1.852,-0.7 1.852,0.7

## EXT-CONN [mm]
pads (12):
  rect 1.7x1.7 hole 1.1: 1(-6.35,-1.27)
  round 1.7 hole 1.1: 2(-6.35,1.27) 3(-3.81,-1.27) 4(-3.81,1.27) 5(-1.27,-1.27) 6(-1.27,1.27) 7(1.27,-1.27) 8(1.27,1.27) 9(3.81,-1.27) 10(3.81,1.27) 11(6.35,-1.27) 12(6.35,1.27)
Top Overlay:
  lines w0.254: -7.62,-2.54 7.62,-2.54 7.62,2.54 -7.62,2.54 -7.62,-2.54

## HDR2X14 [mm] "Connector; Header; 14x2 Position"
pads (28):
  rect 1.5x1.5 hole 0.9: 1(0,0)
  round 1.5 hole 0.9: 2(0,2.54) 3(2.54,0) 4(2.54,2.54) 5(5.08,0) 6(5.08,2.54) 7(7.62,0) 8(7.62,2.54) 9(10.16,0) 10(10.16,2.54) 11(12.7,0) 12(12.7,2.54) 13(15.24,0) 14(15.24,2.54) 15(17.78,0) 16(17.78,2.54) 17(20.32,0) 18(20.32,2.54) 19(22.86,0) 20(22.86,2.54) 21(25.4,0) 22(25.4,2.54) 23(27.94,0) 24(27.94,2.54) 25(30.48,0) 26(30.48,2.54) 27(33.02,0) 28(33.02,2.54)
Top Overlay:
  lines w0.2: -1.27,-1.27 34.29,-1.27 34.29,3.81 -1.27,3.81 -1.27,-1.27
  text "28" at 34.487,4.22 h1.27
  text "1" at -2.54,-0.508 h1.27
  text "2" at -2.54,2.032 h1.27

## IDC10 [mm]
pads (10):
  rect 1.5x1.5 hole 1: 1(5.08,1.27)
  round 1.6 hole 1: 2(5.08,-1.27) 3(2.54,1.27) 4(2.54,-1.27) 5(0,1.27) 6(0,-1.27) 7(-2.54,1.27) 8(-2.54,-1.27) 9(-5.08,1.27) 10(-5.08,-1.27)
Top Overlay:
  lines w0.254: -10.16,-1.27 -9.526,-1.27 -9.526,1.27 -10.16,1.27 ; 10.16,-1.27 9.526,-1.27 9.526,1.27 10.16,1.27 ; -10.16,-4.445 -10.16,4.445 -2.032,4.445 -2.032,3.683 2.032,3.683 2.032,4.445 10.16,4.445 10.16,-4.445 -10.16,-4.445

## IND_0805 [mm]
pads (2):
  rect 1.2x1.45 smd: 1(-0.85,0) 2(0.85,0)

## IND_1812 [mm]
pads (2):
  rect 1.4x3.4 smd: 1(-2.05,0) 2(2.05,0)
Top Overlay:
  lines w0.254: -0.8,-1.6 0.8,-1.6 ; -0.8,1.6 0.8,1.6

## IND_FERRITE_BEAD [mm]
pads (2):
  round 1.35 hole 0.8: 1(-3.25,0) 2(3.25,0)
Top Overlay:
  lines w0.254: -1.703,-0.95 -1.703,0.95 1.703,0.95 1.703,-0.95 -1.703,-0.95